# EAGLE library part PIC18F8722 (library Microchip)
Microchip 64/80-Pin, 1-Mbit Enhanced Flash Microcontrollers with 10-Bit A/D and nanoWatt Technology 64-Pin TQFP devices PIC18F6527 PIC18F6622 PIC18F6627 PIC18F6722 80-Pin TQFP devices PIC18F8527 PIC18F8622 PIC18F8627 PIC18F8722
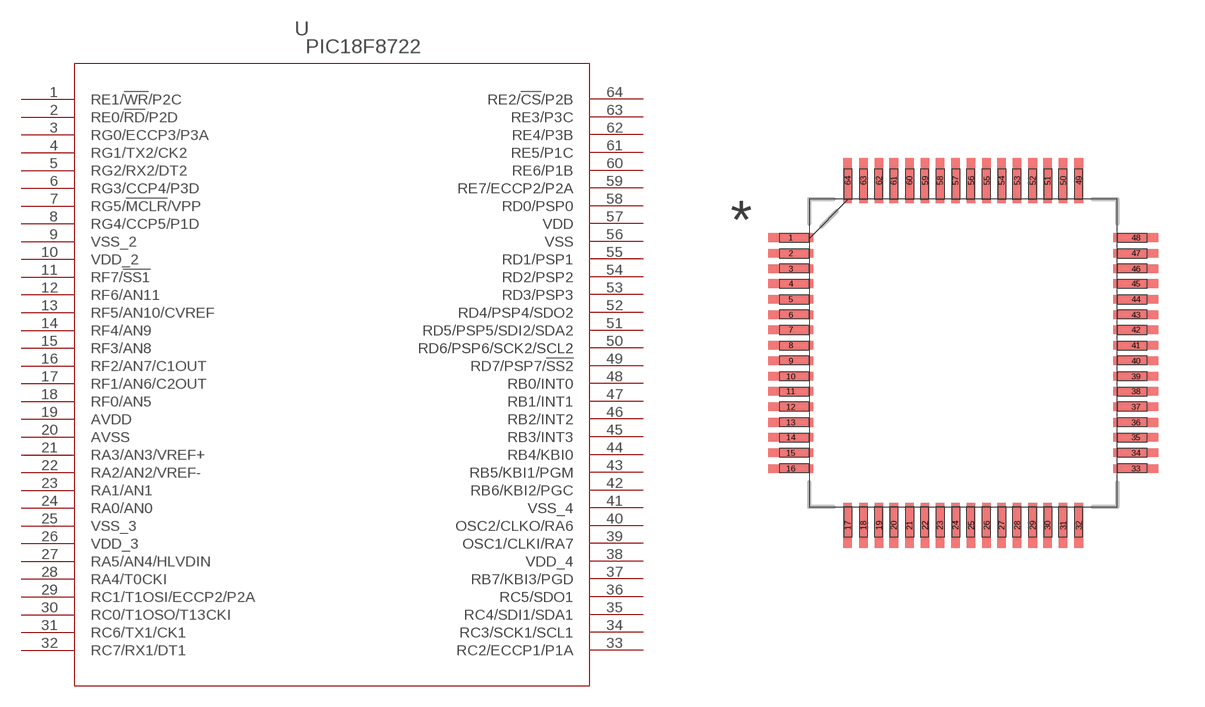
[diagram p2: symbol with the pads of TQFP64_10X10MC; footprint TQFP64_10X10MC]

Designator prefix U

## PIC18F8722  [TQFP64_10X10MC]
1  RE1/!WR!/P2C  pas
2  RE0/!RD!/P2D  pas
3  RG0/ECCP3/P3A  pas
4  RG1/TX2/CK2  pas
5  RG2/RX2/DT2  pas
6  RG3/CCP4/P3D  pas
7  RG5/!MCLR!/VPP  pas
8  RG4/CCP5/P1D  pas
9  VSS_2  pas
10  VDD_2  pas
11  RF7/!SS1  pas
12  RF6/AN11  pas
13  RF5/AN10/CVREF  pas
14  RF4/AN9  pas
15  RF3/AN8  pas
16  RF2/AN7/C1OUT  pas
17  RF1/AN6/C2OUT  pas
18  RF0/AN5  pas
19  AVDD  pas
20  AVSS  pas
21  RA3/AN3/VREF+  pas
22  RA2/AN2/VREF-  pas
23  RA1/AN1  pas
24  RA0/AN0  pas
25  VSS_3  pas
26  VDD_3  pas
27  RA5/AN4/HLVDIN  pas
28  RA4/T0CKI  pas
29  RC1/T1OSI/ECCP2/P2A  pas
30  RC0/T1OSO/T13CKI  pas
31  RC6/TX1/CK1  pas
32  RC7/RX1/DT1  pas
33  RC2/ECCP1/P1A  pas
34  RC3/SCK1/SCL1  pas
35  RC4/SDI1/SDA1  pas
36  RC5/SDO1  pas
37  RB7/KBI3/PGD  pas
38  VDD_4  pas
39  OSC1/CLKI/RA7  pas
40  OSC2/CLKO/RA6  pas
41  VSS_4  pas
42  RB6/KBI2/PGC  pas
43  RB5/KBI1/PGM  pas
44  RB4/KBI0  pas
45  RB3/INT3  pas
46  RB2/INT2  pas
47  RB1/INT1  pas
48  RB0/INT0  pas
49  RD7/PSP7/!SS2  pas
50  RD6/PSP6/SCK2/SCL2  pas
51  RD5/PSP5/SDI2/SDA2  pas
52  RD4/PSP4/SDO2  pas
53  RD3/PSP3  pas
54  RD2/PSP2  pas
55  RD1/PSP1  pas
56  VSS  pas
57  VDD  pas
58  RD0/PSP0  pas
59  RE7/ECCP2/P2A  pas
60  RE6/P1B  pas
61  RE5/P1C  pas
62  RE4/P3B  pas
63  RE3/P3C  pas
64  RE2/!CS!/P2B  pas

## Footprint TQFP64_10X10MC (pad centres in mm)
smd 1.473 x 0.279: 1 -5.613,3.759; 2 -5.613,3.251; 3 -5.613,2.743; 4 -5.613,2.261; 5 -5.613,1.753; 6 -5.613,1.245; 7 -5.613,0.762; 8 -5.613,0.254; 9 -5.613,-0.254; 10 -5.613,-0.762; 11 -5.613,-1.245; 12 -5.613,-1.753; 13 -5.613,-2.261; 14 -5.613,-2.743; 15 -5.613,-3.251; 16 -5.613,-3.759; 33 5.613,-3.759; 34 5.613,-3.251; 35 5.613,-2.743; 36 5.613,-2.261; 37 5.613,-1.753; 38 5.613,-1.245; 39 5.613,-0.762; 40 5.613,-0.254; 41 5.613,0.254; 42 5.613,0.762; 43 5.613,1.245; 44 5.613,1.753; 45 5.613,2.261; 46 5.613,2.743; 47 5.613,3.251; 48 5.613,3.759
smd 0.279 x 1.473: 17 -3.759,-5.613; 18 -3.251,-5.613; 19 -2.743,-5.613; 20 -2.261,-5.613; 21 -1.753,-5.613; 22 -1.245,-5.613; 23 -0.762,-5.613; 24 -0.254,-5.613; 25 0.254,-5.613; 26 0.762,-5.613; 27 1.245,-5.613; 28 1.753,-5.613; 29 2.261,-5.613; 30 2.743,-5.613; 31 3.251,-5.613; 32 3.759,-5.613; 49 3.759,5.613; 50 3.251,5.613; 51 2.743,5.613; 52 2.261,5.613; 53 1.753,5.613; 54 1.245,5.613; 55 0.762,5.613; 56 0.254,5.613; 57 -0.254,5.613; 58 -0.762,5.613; 59 -1.245,5.613; 60 -1.753,5.613; 61 -2.261,5.613; 62 -2.743,5.613; 63 -3.251,5.613; 64 -3.759,5.613